# EAGLE library part NANO_HEADER (library IC)
Arduino nano V3.0 femal header
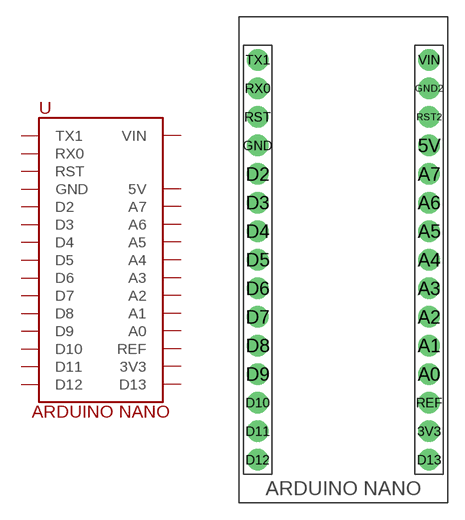
[diagram p0: symbol with the pads of NANO_HEADER; footprint NANO_HEADER]

Designator prefix -

## NANO_HEADER  [NANO_HEADER]
3V3  3V3
5V  5V
A0  A0
A1  A1
A2  A2
A3  A3
A4  A4
A5  A5
A6  A6
A7  A7
D2  D2
D3  D3
D4  D4
D5  D5
D6  D6
D7  D7
D8  D8
D9  D9
D10  D10
D11  D11
D12  D12
D13  D13
GND  GND
GND2  GND
REF  REF
RST  RST
RST2  RST
RX0  RX0
TX1  TX1
VIN  VIN

## Footprint NANO_HEADER (pad centres in mm)
drill 1 pad 1.905: 3V3 16.51,6.35; 5V 16.51,31.75; A0 16.51,11.43; A1 16.51,13.97; A2 16.51,16.51; A3 16.51,19.05; A4 16.51,21.59; A5 16.51,24.13; A6 16.51,26.67; A7 16.51,29.21; D2 1.27,29.21; D3 1.27,26.67; D4 1.27,24.13; D5 1.27,21.59; D6 1.27,19.05; D7 1.27,16.51; D8 1.27,13.97; D9 1.27,11.43; D10 1.27,8.89; D11 1.27,6.35; D12 1.27,3.81; D13 16.51,3.81; GND 1.27,31.75; GND2 16.51,36.83; REF 16.51,8.89; RST 1.27,34.29; RST2 16.51,34.29; RX0 1.27,36.83; TX1 1.27,39.37; VIN 16.51,39.37